# Altium footprint library TPD6E05U06RVZR.PcbLib: 1 footprints
Each footprint in its own frame and in the unit in brackets; x right, y up, seen from the top. Pads: shape width x height; smd on the part's side, far side on the other; paste and mask are expansions set on the pad; w line width, h text height; cw(c..) or ccw(c..) is an arc to the next point about the centre after c.
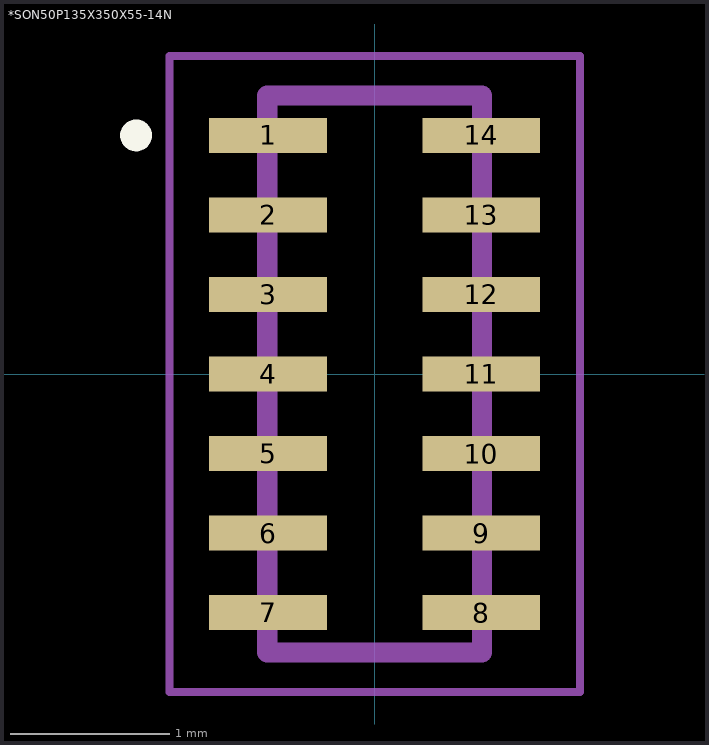
[diagram p0: the footprint, top view; thin cyan lines are the x and y axes]

## *SON50P135X350X55-14N [mm]
pads (14):
  rect 0.74x0.22 smd: 1(-0.67,1.5) 2(-0.67,1) 3(-0.67,0.5) 4(-0.67,0) 5(-0.67,-0.5) 6(-0.67,-1) 7(-0.67,-1.5) 8(0.67,-1.5) 9(0.67,-1) 10(0.67,-0.5) 11(0.67,0) 12(0.67,0.5) 13(0.67,1) 14(0.67,1.5)
Top Overlay:
  circle w0.1: c-1.5,1.5 r0.05
Mechanical 4:
  circle w0.1: c-0.9,1.5 r0.05
  circle w0.1: c-0.9,1.5 r0.05
  lines w0.127: -0.675,-1.75 0.675,-1.75 ; -0.675,-1.75 -0.675,1.75 ; -0.675,-1.75 0.675,-1.75 ; -0.675,-1.75 -0.675,1.75 ; -0.675,1.75 0.675,1.75 ; -0.675,1.75 0.675,1.75 ; 0.675,-1.75 0.675,1.75 ; 0.675,-1.75 0.675,1.75
Courtyard Bottom:
  lines w0.05: -1.29,-2 1.29,-2 1.29,2 -1.29,2 -1.29,-2
3D body: height 0.55, standoff 0, extent -0.675,-1.75 0.675,1.75